# Altium schematic symbol library Smart_Wifi_Control_System_Rev_A.1.0.SCHLIB: 12 symbols
Pins are listed as number, name and electrical type; pins without a type are passive.

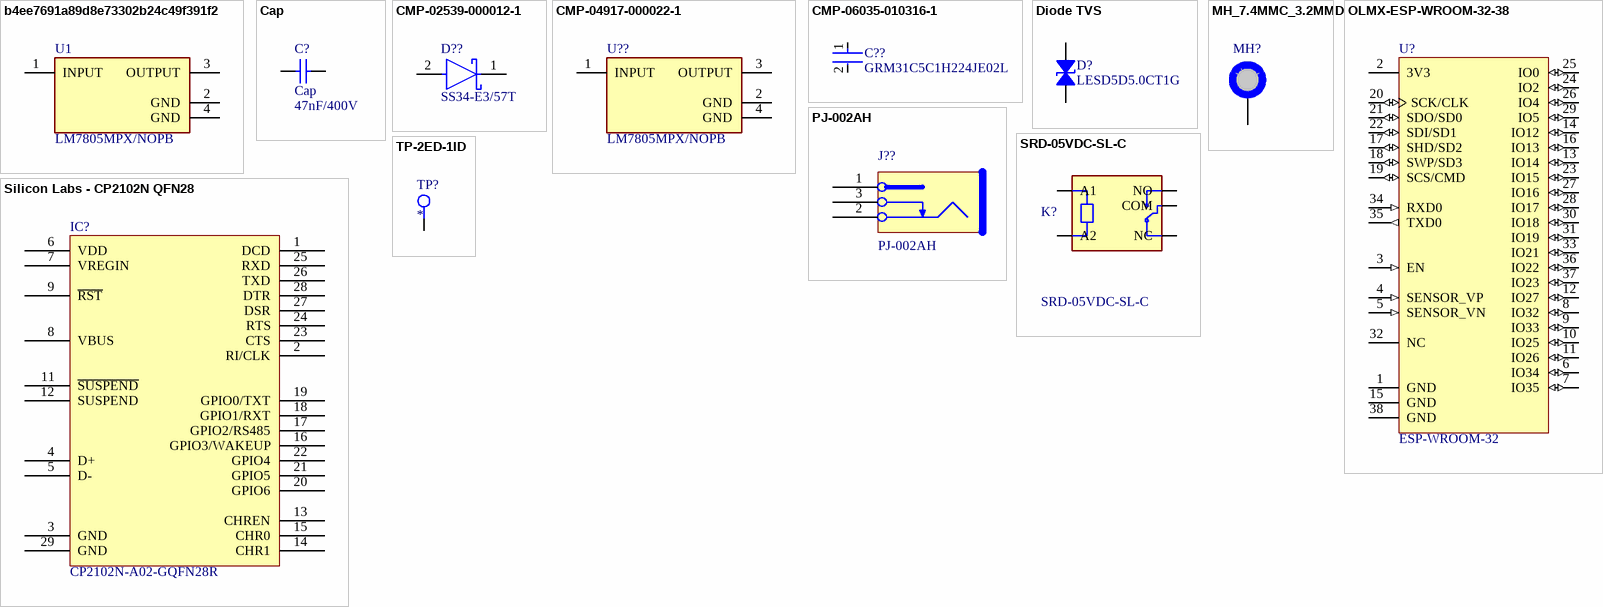
[diagram p0: symbols b4ee7691a89d8e73302b24c49f391f2 to TP-2ED-1ID]

## b4ee7691a89d8e73302b24c49f391f2
designator U1, comment LM7805MPX/NOPB
80dB@(120Hz) 1.5A null 5V positive 35V SOT-223-4 Linear Voltage Regulators (LDO) ROHS; Manufacturer: Texas Instruments; Dropout Voltage: 2V; Output Type: Fixed; Accuracy Percentage: 3%; Nominal Supply Current: 8mA; Standoff Height: 0.02mm; Min Supply Voltage: 7.5V; Number Of Outputs: 1; Max Junction Temp: +150°C; Max Supply Voltage: 30V; Height: 1.8mm; Temperature Range High: +125°C; Device Class L3: Voltage Regulators - Linear; Lead Free: Yes; Digikey Description: IC REG LINEAR 5V 1.5A SOT223-4; Output Current: 1.5A; Manufacturer Part Number: LM7805MPX/NOPB; Automotive: No; Device Class L1: Integrated Circuits (ICs); ComponentLink2Description: Datasheet; Device Class L2: Power Management ICs; Category: IC; Octopart: https://octopart.com/lm7805mpx%2Fnopb-texas+instruments-74629992; Package: SOT223-4; RoHS: TRUE; Output Voltage: 5V; Temperature Range Low: 0°C; Temperature: 0°C to +125°C; ComponentLink2URL: http://www.ti.com/lit/ds/symlink/lm7800.pdf
footprint FP-LM7805MPX-NOPB-MFG
footprint FP-LM7805MPX-NOPB-IPC_C
footprint FP-LM7805MPX-NOPB-IPC_B
footprint FP-LM7805MPX-NOPB-IPC_A
pins: 1 INPUT (power), 2 GND (power), 3 OUTPUT, 4 GND (power)

## Cap
designator C?  value 47nF/400V
Capacitor; Published: 8-Jun-2000; LatestRevisionDate: 17-Jul-2002; LatestRevisionNote: Re-released for DXP Platform.; PackageReference: RAD-0.3; Publisher: Altium Limited; PackageDescription: Radial Cap, Thru-Hole; 2 Leads; 0.3 in Pin Spacing
simulation model CAP (Capacitor)
signal-integrity model Cap
footprint CAPRR1000W60L1200T500H830
pins: 1, 2

## CMP-02539-000012-1
designator D??, comment SS34-E3/57T
DIODE SCHOTTKY 40V 3A DO214AB; Manufacturer: Vishay; Manufacturer: Vishay Semiconductors; Max Junction Temp: +150°C; Peak Reverse Current: 0.5mA; Max Surge Forward Current: 100A; Standoff Height: 0mm; ComponentLink2Description: Datasheet; Device Class L3: Schottky Diodes; Height: 2.62mm; Max Repetitive Reverse Voltage: 40V; Lead Free: Yes; Package: 95402; Temperature Range High: +150°C; ComponentLink2URL: http://www.vishay.com/docs/88751/ss32.pdf; Temperature: -55°C to +150°C; Footprint Url: http://www.vishay.com/docs/95402/smc.pdf; Automotive: No; Forward Current: 3A; Category: Diode; Manufacturer Part Number: SS34-E3/57T; RoHS: TRUE; Device Class L2: Diodes; Mouser Description: Schottky Diodes & Rectifiers 3.0 Amp 40 Volt; Octopart: https://octopart.com/ss34-e3%2F57t-vishay-39552907; Temperature Range Low: -55°C; Device Class L1: Discrete Semiconductors; Digikey Description: DIODE SCHOTTKY 40V 3A DO214AB
footprint FP-95402-MFG
pins: 1 C, 2 A

## CMP-04917-000022-1
designator U??, comment LM7805MPX/NOPB
IC REG LINEAR 5V 1.5A SOT223-4; Manufacturer: Texas Instruments; Dropout Voltage: 2V; Output Type: Fixed; Accuracy Percentage: 3%; Nominal Supply Current: 8mA; Standoff Height: 0.02mm; Min Supply Voltage: 7.5V; Number Of Outputs: 1; Max Junction Temp: +150°C; Max Supply Voltage: 30V; Height: 1.8mm; Temperature Range High: +125°C; Device Class L3: Voltage Regulators - Linear; Lead Free: Yes; Digikey Description: IC REG LINEAR 5V 1.5A SOT223-4; Output Current: 1.5A; Manufacturer Part Number: LM7805MPX/NOPB; Automotive: No; Device Class L1: Integrated Circuits (ICs); ComponentLink2Description: Datasheet; Device Class L2: Power Management ICs; Category: IC; Octopart: https://octopart.com/lm7805mpx%2Fnopb-texas+instruments-74629992; Package: SOT223-4; RoHS: TRUE; Output Voltage: 5V; Temperature Range Low: 0°C; Temperature: 0°C to +125°C; ComponentLink2URL: http://www.ti.com/lit/ds/symlink/lm7800.pdf
footprint FP-LM7805MPX-NOPB-MFG
footprint FP-LM7805MPX-NOPB-IPC_C
footprint FP-LM7805MPX-NOPB-IPC_B
footprint FP-LM7805MPX-NOPB-IPC_A
pins: 1 INPUT (power), 2 GND (power), 3 OUTPUT, 4 GND (power)

## CMP-06035-010316-1
designator C??, comment GRM31C5C1H224JE02L
Chip Multilayer Ceramic Capacitors for General Purpose, 1206, 0.22uF, C0G, 30ppm/°C, 5%, 50V; Manufacturer: Murata; Manufacturer Part Number: GRM31C5C1H224JE02L
footprint FP-GRM31C-0_2-e0_3_0_8-IPC_B
footprint FP-GRM31C-0_2-e0_3_0_8-IPC_C
footprint FP-GRM31C-0_2-e0_3_0_8-IPC_A
footprint FP-GRM31C-0_2-e0_3_0_8-MFG
pins: 1, 2

## Diode TVS
designator D?, comment LESD5D5.0CT1G
5.6V 18.6V 5V Bi-Directional SOD-523  ESD Protection Devices ROHS; Manufacturer: LRC; Bidirectional Channels: 1; Capacitance @ Frequency: 30pF @ 1MHz; Power Line Protection: No; Power - Peak Pulse: 10W; Type: Zener; Voltage - Breakdown (Min): 5.78V; Part Number: LESD5D5.0CT1G; Applications: General Purpose; ComponentLink1Description: Datasheet; ComponentLink1URL: http://rohmfs.rohm.com/en/products/databook/datasheet/discrete/diode/zener/rsb6.8sm.pdf; ComponentLink2Description: DigiKey Link; ComponentLink2URL: http://digikey.com/product-detail/en/rohm-semiconductor/RSB6.8SMT2N/RSB6.8SMT2NTR-ND/5721280; LastUpdated: 1/19/2024 9:52:56 PM; Lifecycle Status: Active; Minimum Order: 0; Mounting Type: Surface Mount; Operating Temperature: -55°C ~ 150°C (TJ); Package / Case: SC-79, SOD-523; Packaging: TapeAndReel; PartId: 9814; Part Status: Active; Price: 0.05; Series: -; Supplier 1: DigiKey; Supplier Part Number 1: RSB6.8SMT2NTR-ND; Supplier Device Package: EMD2
footprint SOD-523 (Molded Diode, 2-Leads, Body 1.60x0.80mm, IPC Medium Density)
pins: 1, 2

## MH_7.4MMC_3.2MMD
designator MH?  (value not drawn)  (no BOM)
Mounting Hole 7.4mm Diameter, 3.2mm Drill
footprint MH_7.4MMD_3.2MMD_VIA_SUPPORT
pins: 1

## OLMX-ESP-WROOM-32-38
designator U?, comment ESP-WROOM-32
Espressif System, 2.7 to 3.6 V, -40 to 85 degC, 38-Pin SMD; Manufacturer: Olimex; Package Description: 38-Pin Surface Mount Device, Body 18 x 25.5 mm, Pitch 1.27 mm; Manufacturer URL: https://www.olimex.com; RoHSCompliant: false; Mounting Technology: SurfaceMount; Datasheet Version: Rev. 2.1, 09/2017; Datasheet URL: http://www.espressif.com/sites/default/files/documentation/esp-wroom-32_datasheet_en.pdf; Package Reference: ESP-WROOM-32
footprint OLMX-ESP-WROOM-32 (SMD, 38-Leads, Body 18x25.5mm, Pitch 1.27mm)
pins: 1 GND (power) "Ground", 2 3V3 (power) "Power supply.", 3 EN (in) "Chip-enable signal. Active high.", 4 SENSOR_VP (in) "GPIO36, SENSOR_VP, ADC_H, ADC1_CH0, RTC_GPIO0", 5 SENSOR_VN (in) "GPIO39, SENSOR_VN, ADC1_CH3, ADC_H, RTC_GPIO3", 6 IO34 (io) "GPIO34, ADC1_CH6, RTC_GPIO4", 7 IO35 (io) "GPIO35, ADC1_CH7, RTC_GPIO5", 8 IO32 (io) "GPIO32, XTAL_32K_P (32.768 kHz crystal oscillator input), ADC1_CH4, TOUCH9, RTC_GPIO9", 9 IO33 (io) "GPIO33, XTAL_32K_N (32.768 kHz crystal oscillator output), ADC1_CH5, TOUCH8, RTC_GPIO8", 10 IO25 (io) "GPIO25, DAC_1, ADC2_CH8, RTC_GPIO6, EMAC_RXD0", 11 IO26 (io) "GPIO26, DAC_2, ADC2_CH9, RTC_GPIO7, EMAC_RXD1", 12 IO27 (io) "GPIO27, ADC2_CH7, TOUCH7, RTC_GPIO17, EMAC_RX_DV", 13 IO14 (io) "GPIO14, ADC2_CH6, TOUCH6, RTC_GPIO16, MTMS, HSPICLK, HS2_CLK, SD_CLK, EMAC_TXD2", 14 IO12 (io) "GPIO12, ADC2_CH5, TOUCH5, RTC_GPIO15, MTDI, HSPIQ, HS2_DATA2, SD_DATA2, EMAC_TXD3", 15 GND (power) "Ground", 16 IO13 (io) "GPIO13, ADC2_CH4, TOUCH4, RTC_GPIO14, MTCK, HSPID, HS2_DATA3, SD_DATA3, EMAC_RX_ER", 17 SHD/SD2 (io) "GPIO9, SD_DATA2, SPIHD, HS1_DATA2, U1RXD", 18 SWP/SD3 (io) "GPIO10, SD_DATA3, SPIWP, HS1_DATA3, U1TXD", 19 SCS/CMD (io) "GPIO11, SD_CMD, SPICS0, HS1_CMD, U1RTS", 20 SCK/CLK (io) "GPIO6, SD_CLK, SPICLK, HS1_CLK, U1CTS", 21 SDO/SD0 (io) "GPIO7, SD_DATA0, SPIQ, HS1_DATA0, U2RTS", 22 SDI/SD1 (io) "GPIO8, SD_DATA1, SPID, HS1_DATA1, U2CTS", 23 IO15 (io) "GPIO15, ADC2_CH3, TOUCH3, MTDO, HSPICS0, RTC_GPIO13, HS2_CMD, SD_CMD, EMAC_RXD3", 24 IO2 (io) "GPIO2, ADC2_CH2, TOUCH2, RTC_GPIO12, HSPIWP, HS2_DATA0, SD_DATA0", 25 IO0 (io) "GPIO0, ADC2_CH1, TOUCH1, RTC_GPIO11, CLK_OUT1, EMAC_TX_CLK", 26 IO4 (io) "GPIO4, ADC2_CH0, TOUCH0, RTC_GPIO10, HSPIHD, HS2_DATA1, SD_DATA1, EMAC_TX_ER", 27 IO16 (io) "GPIO16, HS1_DATA4, U2RXD, EMAC_CLK_OUT", 28 IO17 (io) "GPIO17, HS1_DATA5, U2TXD, EMAC_CLK_OUT_180", 29 IO5 (io) "GPIO5, VSPICS0, HS1_DATA6, EMAC_RX_CLK", 30 IO18 (io) "GPIO18, VSPICLK, HS1_DATA7", 31 IO19 (io) "GPIO19, VSPIQ, U0CTS, EMAC_TXD0", 32 NC "Not connected", 33 IO21 (io) "GPIO21, VSPIHD, EMAC_TX_EN", 34 RXD0 (in) "GPIO3, U0RXD, CLK_OUT2", 35 TXD0 (out) "GPIO1, U0TXD, CLK_OUT3, EMAC_RXD2", 36 IO22 (io) "GPIO22, VSPIWP, U0RTS, EMAC_TXD1", 37 IO23 (io) "GPIO23, VSPID, HS1_STROBE", 38 GND (power) "Ground"

## PJ-002AH
designator J??
CONN PWR JACK 2.1X5.5MM HIGH CUR; Manufacturer: CUI Inc; .Checked PCB: used; Mating connector: 2.1mm ID, 5.5mm OD; Gender: Male; Number of Positions/Contacts: 2 Conductors, 3 Contacts; Internal Switch(s): Single Switch, Normally Closed; Shielding: Unshielded; Voltage - Rated: 24VDC; Current Rating: 5A; .Checked SCH: used; Category: Connectors, Interconnects; Family: Barrel - Power; Manufacturer Part Number: PJ-002AH; Operating Temperature: -25°C ~ 85°C; Price 1k [$]: 0.23625; Supplier: Digikey; Supplier Part Number: CP-002AH-ND; Value: PJ-002AH; Supplier 1: Digi-Key; Supplier Part Number 1: CP-002AH-ND; RoHS: RoHS Compliant; Stock 1: 138933; Pricing 1: 1=1.01, 10=0.704, 100=0.4724, 500=0.3819, 1000=0.3417, 2500=0.27135 (USD); Connector Type: Jack; Plug/Mating Plug Diameter: 2.1mm ID, 5.5mm OD; Mounting Type: Through Hole, Right Angle; Termination: Solder Eyelet(s); Features: -; Color: Black; Contact Material: Copper Alloy; Contact Material - Plating: Nickel; Housing Color: Black; Housing Material: Thermoplastic; ComponentLink1URL: http://products.cui.com/GetSpecForDigiKey.aspx?MFGNum=PJ-002AH; ComponentLink1Description: http://products.cui.com/GetSpecForDigiKey.aspx?MFGNum=PJ-002AH
footprint POWER_JACK_5.5_2.1MM_NS
pins: 1, 2, 3

## Silicon Labs - CP2102N QFN28
designator IC?, comment CP2102N-A02-GQFN28R
USB转UART UART QFN-28-EP(5x5) USB ICs ROHS; Manufacturer: Silicon Labs; Current - Supply: 9.5mA; Function: Bridge, USB to UART; Standards: USB 2.0; Voltage - Supply: 3V ~ 3.6V; Part Number: CP2102N-A02-GQFN28R; ComponentLink1Description: Datasheet; ComponentLink1URL: https://www.silabs.com/documents/public/data-sheets/cp2102n-datasheet.pdf; ComponentLink2Description: DigiKey Link; ComponentLink2URL: http://digikey.com/product-detail/en/silicon-labs/CP2102N-A02-GQFN28R/336-5890-1-ND/9863483; Interface: UART; LastUpdated: 7/31/2020 4:26:30 PM; Lifecycle Status: Active; Minimum Order: 1; Operating Temperature: -40°C ~ 85°C (TA); Package / Case: 28-WFQFN Exposed Pad; Packaging: TapeAndReel; Part Status: Active; Price: 1.23; Protocol: USB; Series: USBXpress™; Supplier 1: DigiKey; Supplier Part Number 1: 336-5890-1-ND; Supplier Device Package: 28-QFN (5x5)
footprint IC_CP2102N-A02-GQFN28R
pins: 1 DCD, 2 RI/CLK, 3 GND, 4 D+, 5 D-, 6 VDD, 7 VREGIN, 8 VBUS, 9 ~{RST}, 11 ~{SUSPEND}, 12 SUSPEND, 13 CHREN, 14 CHR1, 15 CHR0, 16 GPIO3/WAKEUP, 17 GPIO2/RS485, 18 GPIO1/RXT, 19 GPIO0/TXT, 20 GPIO6, 21 GPIO5, 22 GPIO4, 23 CTS, 24 RTS, 25 RXD, 26 TXD, 27 DSR, 28 DTR, 29 GND

## SRD-05VDC-SL-C
designator K?
5V Trigger Relay Module For Arduino And Raspberry Pi 5V Trigger Relay Module For Arduino And Raspberry Pi; MF: Songle Relay; Check_prices: https://www.snapeda.com/parts/SRD-05VDC-SL-C/Songle+Relay/view-part/?ref=eda; Value: *; Availability: Not in stock; Price: None; Package: NON STANDARD-5 Songle Relay; MP: SRD-05VDC-SL-C; SnapEDA_Link: https://www.snapeda.com/parts/SRD-05VDC-SL-C/Songle+Relay/view-part/?ref=snap
footprint RELAY_SRD-05VDC-SL-C
pins: A1, A2, COM, NC, NO

## TP-2ED-1ID
designator TP?
Test point-via type 2mm External diameter  1mm internal diameter; Value: *
footprint TP-2ED-1ID
pins: 1